# Altium footprint library EIA.DFN.PcbLib: 5 footprints
Each footprint in its own frame and in the unit in brackets; x right, y up, seen from the top. Pads: shape width x height; smd on the part's side, far side on the other; paste and mask are expansions set on the pad; w line width, h text height; cw(c..) or ccw(c..) is an arc to the next point about the centre after c.
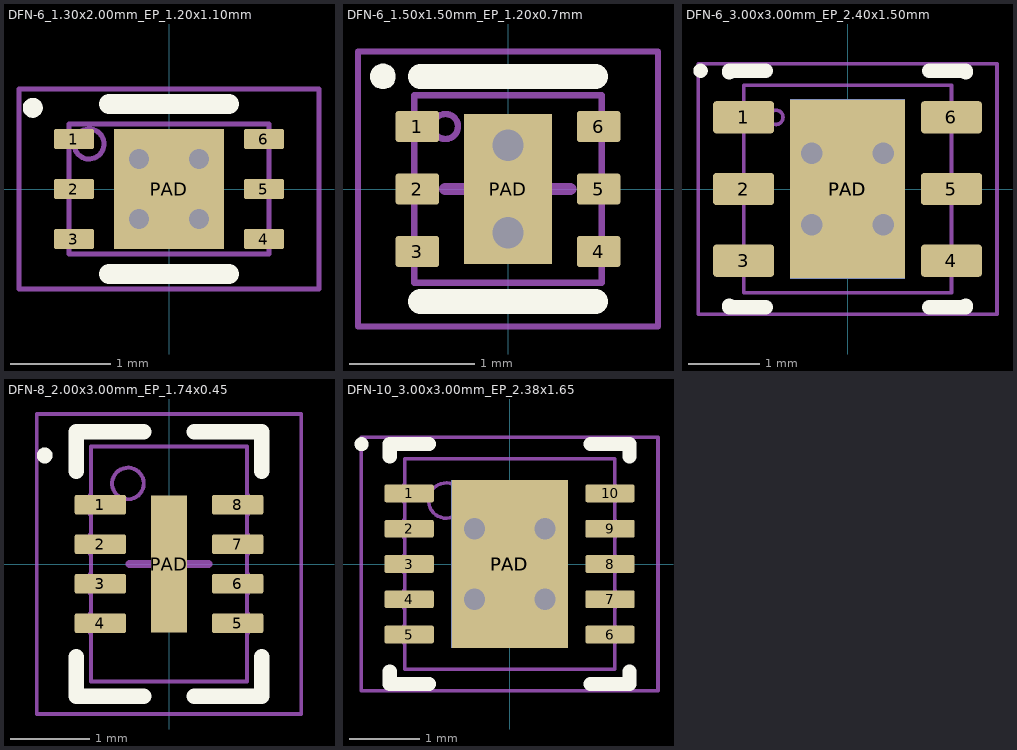
[diagram p0: the footprints below, top view; thin cyan lines are the x and y axes]

## DFN-6_1.30x2.00mm_EP_1.20x1.10mm [mm] "DFN, 6-Leads, Body 1.30x2.00mm, Pitch 0.50mm, Thermal Pad 1.20x1.10mm, IPC Medium Density"
height 0.9
pads (7):
  rrect20% 0.4x0.2 smd: 1(-0.95,0.5) 2(-0.95,0) 3(-0.95,-0.5) 4(0.95,-0.5) 5(0.95,0) 6(0.95,0.5)
  rect 1.1x1.2 smd: PAD(0,0)
via -0.3,-0.3 diameter 0.4 hole 0.2
via 0.3,-0.3 diameter 0.4 hole 0.2
via 0.3,0.3 diameter 0.4 hole 0.2
via -0.3,0.3 diameter 0.4 hole 0.2
Top Overlay:
  circle w0.1: c-1.362,0.812 r0.05
  lines w0.2: -0.6,-0.85 0.6,-0.85 ; -0.6,0.85 0.6,0.85
Mechanical 1:
  lines w0.05: -1,-0.65 1,-0.65 1,0.65 -1,0.65 -1,-0.65 ; -0.937,0.39 ccw(c-0.8,0.45) -0.932,0.379 ccw(c-0.8,0.45) -0.911,0.349 ccw(c-0.8,0.45) -0.901,0.339 ccw(c-0.8,0.45) -0.871,0.318 ccw(c-0.8,0.45) -0.86,0.313 ccw(c-0.8,0.45) -0.825,0.302 ccw(c-0.8,0.45) -0.812,0.3 ccw(c-0.8,0.45) -0.729,0.318 ccw(c-0.8,0.45) -0.718,0.324 ccw(c-0.8,0.45) -0.69,0.348 ccw(c-0.8,0.45) -0.681,0.358 ccw(c-0.8,0.45) -0.663,0.389 ccw(c-0.8,0.45) -0.658,0.402 ccw(c-0.8,0.45) -0.651,0.436 ccw(c-0.8,0.45) -0.65,0.45 ccw(c-0.8,0.45) -0.654,0.486 ccw(c-0.8,0.45) -0.658,0.499 ccw(c-0.8,0.45) -0.674,0.532 ccw(c-0.8,0.45) -0.681,0.542 ccw(c-0.8,0.45) -0.708,0.569 ccw(c-0.8,0.45) -0.718,0.576 ccw(c-0.8,0.45) -0.8,0.6 ccw(c-0.8,0.45) -0.812,0.6 ccw(c-0.8,0.45) -0.848,0.592 ccw(c-0.8,0.45) -0.86,0.587 ccw(c-0.8,0.45) -0.926,0.532 ccw(c-0.8,0.45) -0.932,0.521 ccw(c-0.8,0.45) -0.937,0.39
Mechanical 15:
  lines w0.05: -1.5,-1 1.5,-1 1.5,1 -1.5,1 -1.5,-1
  lines w0.1: -0.5,0 0.5,0 ; 0,-0.5 0,0.5
3D body "DFN-6_2.00x2.00mm_EP_1.10x1.20mm.STEP": height 0.9, standoff 0, extent -1,-0.65 1,0.65

## DFN-6_1.50x1.50mm_EP_1.20x0.7mm [mm] "DFN, 6-Leads, Body 1.50x1.50mm, Pitch 0.50mm, Thermal Pad 1.20x0.70mm, IPC Medium Density"
height 0.5
pads (7):
  rrect20% 0.35x0.25 smd: 1(-0.725,0.5) 2(-0.725,0) 3(-0.725,-0.5) 4(0.725,-0.5) 5(0.725,0) 6(0.725,0.5)
  rect 0.7x1.2 smd: PAD(0,0)
via 0,-0.35 diameter 0.5 hole 0.25
via 0,0.35 diameter 0.5 hole 0.25
Top Overlay:
  region: -1,1 -1.02,1 -1.057,0.985 -1.085,0.957 -1.1,0.92 -1.1,0.88 -1.085,0.843 -1.057,0.815 -1.02,0.8 -1,0.8 -0.98,0.8 -0.943,0.815 -0.915,0.843 -0.9,0.88 -0.9,0.92 -0.915,0.957 -0.943,0.985 -0.98,1
  lines w0.2: -0.7,-0.9 0.7,-0.9 ; -0.7,0.9 0.7,0.9
Mechanical 1:
  lines w0.05: -0.75,-0.75 -0.75,0.75 0.75,0.75 0.75,-0.75 -0.75,-0.75 ; -0.6,0.494 cw(c-0.501,0.5) -0.6,0.5 cw(c-0.501,0.5) -0.6,0.505 cw(c-0.5,0.5) -0.599,0.512 cw(c-0.499,0.5) -0.592,0.539 cw(c-0.501,0.5) -0.584,0.554 cw(c-0.5,0.5) -0.566,0.575 cw(c-0.501,0.501) -0.553,0.585 cw(c-0.5,0.499) -0.527,0.596 cw(c-0.5,0.501) -0.511,0.599 cw(c-0.5,0.499) -0.482,0.598 cw(c-0.5,0.501) -0.466,0.594 cw(c-0.5,0.499) -0.442,0.581 cw(c-0.499,0.501) -0.438,0.578 cw(c-0.499,0.501) -0.433,0.575 cw(c-0.5,0.5) -0.428,0.569 cw(c-0.501,0.5) -0.412,0.548 cw(c-0.499,0.501) -0.41,0.543 cw(c-0.499,0.5) -0.407,0.538 cw(c-0.5,0.5) -0.405,0.531 cw(c-0.501,0.5) -0.4,0.506 cw(c-0.499,0.5) -0.4,0.5 cw(c-0.499,0.5) -0.4,0.494 cw(c-0.5,0.5) -0.401,0.486 cw(c-0.501,0.5) -0.407,0.462 cw(c-0.499,0.5) -0.41,0.457 cw(c-0.499,0.499) -0.412,0.452 cw(c-0.5,0.5) -0.416,0.445 cw(c-0.501,0.5) -0.433,0.425 cw(c-0.499,0.499) -0.438,0.422 cw(c-0.499,0.499) -0.442,0.418 cw(c-0.5,0.5) -0.449,0.414 cw(c-0.5,0.501) -0.472,0.404 cw(c-0.5,0.499) -0.478,0.403 cw(c-0.5,0.499) -0.483,0.401 cw(c-0.5,0.5) -0.491,0.4 cw(c-0.5,0.501) -0.517,0.401 cw(c-0.5,0.499) -0.522,0.403 cw(c-0.5,0.499) -0.528,0.404 cw(c-0.5,0.5) -0.535,0.406 cw(c-0.5,0.501) -0.558,0.418 cw(c-0.501,0.499) -0.562,0.422 cw(c-0.501,0.499) -0.567,0.425 cw(c-0.5,0.5) -0.572,0.431 cw(c-0.499,0.5) -0.588,0.452 cw(c-0.501,0.499) -0.59,0.457 cw(c-0.501,0.5) -0.593,0.462 cw(c-0.5,0.5) -0.595,0.469 cw(c-0.499,0.5) -0.6,0.494
Mechanical 15:
  lines w0.05: -1.2,-1.1 1.2,-1.1 1.2,1.1 -1.2,1.1 -1.2,-1.1
  lines w0.1: -0.5,0 0.5,0 ; 0,-0.5 0,0.5
3D body "DFN-6_1.50x1.50mm_EP_1.20x0.7mm.STEP": height 0.5, standoff 0, extent -0.75,-0.75 0.75,0.75

## DFN-6_3.00x3.00mm_EP_2.40x1.50mm [mm] "DFN, 6-Leads, Body 3.00x3.00mm, Pitch 1.00mm, Thermal Pad 2.40x1.50mm, IPC Medium Density"
height 0.8
pads (8):
  rrect20% 0.85x0.45 smd: 1(-1.45,1) 2(-1.45,0) 3(-1.45,-1) 4(1.45,-1) 5(1.45,0) 6(1.45,1)
  rect 1.6x2.5 smd: PAD(0,0)
  rect 1.6x2.5 smd far side paste-2539.97: PAD(0,0)
via -0.5,0.5 diameter 0.6 hole 0.3
via 0.5,0.5 diameter 0.6 hole 0.3
via 0.5,-0.5 diameter 0.6 hole 0.3
via -0.5,-0.5 diameter 0.6 hole 0.3
Top Overlay:
  circle w0.1: c-2.05,1.65 r0.05
  lines w0.2: -1.65,-1.625 -1.65,-1.65 -1.14,-1.65 ; -1.65,1.625 -1.65,1.65 -1.14,1.65 ; 1.14,-1.65 1.65,-1.65 1.65,-1.625 ; 1.14,1.65 1.65,1.65 1.65,1.625
Mechanical 1:
  circle w0.05: c-1,1 r0.1
  lines w0.05: -1.45,-1.14 -1.5,-1.14 -1.5,-0.86 -1.45,-0.86 ; -1.45,-0.14 -1.5,-0.14 -1.5,0.14 -1.45,0.14 ; -1.45,0.86 -1.5,0.86 -1.5,1.14 -1.45,1.14 ; 1.45,-1.14 1.5,-1.14 1.5,-0.86 1.45,-0.86 ; 1.45,-0.14 1.5,-0.14 1.5,0.14 1.45,0.14 ; 1.45,0.86 1.5,0.86 1.5,1.14 1.45,1.14 ; -1.45,-1.45 1.45,-1.45 1.45,1.45 -1.45,1.45 -1.45,-1.45
Mechanical 15:
  lines w0.05: -2.085,-1.75 2.085,-1.75 2.085,1.75 -2.085,1.75 -2.085,-1.75
  lines w0.1: -0.5,0 0.5,0 ; 0,-0.5 0,0.5
3D body "DFN-6-1EP_3x3mm_P1mm_EP1.5x2.4mm.step": height 0.6, standoff 0, extent -1.5,-1.45 1.5,1.45

## DFN-8_2.00x3.00mm_EP_1.74x0.45 [mm] "DFN, 8-Leads, Body 2.00x3.00mm, Pitch 0.50mm, Thermal Pad 1.74x0.45mm, IPC Medium Density"
height 0.8
pads (9):
  rrect20% 0.65x0.25 smd: 1(-0.87,0.75) 2(-0.87,0.25) 3(-0.87,-0.25) 4(-0.87,-0.75) 5(0.87,-0.75) 6(0.87,-0.25) 7(0.87,0.25) 8(0.87,0.75)
  rect 0.45x1.74 smd: PAD(0,0)
Top Overlay:
  circle w0.1: c-1.575,1.375 r0.05
  lines w0.2: -1.175,-1.175 -1.175,-1.675 -0.32,-1.675 ; -1.175,1.175 -1.175,1.675 -0.32,1.675 ; 0.32,-1.675 1.175,-1.675 1.175,-1.175 ; 0.32,1.675 1.175,1.675 1.175,1.175
Mechanical 1:
  circle w0.05: c-0.52,1.02 r0.2
  lines w0.05: -0.99,-0.875 -1,-0.875 -1,-0.625 -0.99,-0.625 ; -0.99,-0.375 -1,-0.375 -1,-0.125 -0.99,-0.125 ; -0.99,0.125 -1,0.125 -1,0.375 -0.99,0.375 ; -0.99,0.625 -1,0.625 -1,0.875 -0.99,0.875 ; 0.99,-0.875 1,-0.875 1,-0.625 0.99,-0.625 ; 0.99,-0.375 1,-0.375 1,-0.125 0.99,-0.125 ; 0.99,0.125 1,0.125 1,0.375 0.99,0.375 ; 0.99,0.625 1,0.625 1,0.875 0.99,0.875 ; -0.99,-1.49 -0.99,1.49 0.99,1.49 0.99,-1.49 -0.99,-1.49
Mechanical 15:
  lines w0.05: -1.675,-1.9 1.675,-1.9 1.675,1.9 -1.675,1.9 -1.675,-1.9
  lines w0.1: -0.5,0 0.5,0 ; 0,-0.5 0,0.5
3D body "DFN-8-1EP_2x3mm_P0.5mm_EP0.61x2.2mm.step": height 0.77, standoff 0, extent -1,-1.49 1,1.49

## DFN-10_3.00x3.00mm_EP_2.38x1.65 [mm] "DFN, 10-Leads, Body 3.00x3.00mm, Pitch 0.50mm, Thermal Pad 2.38x1.65mm, IPC Medium Density"
height 0.8
pads (12):
  rrect20% 0.7x0.25 smd: 1(-1.425,1) 2(-1.425,0.5) 3(-1.425,0) 4(-1.425,-0.5) 5(-1.425,-1) 6(1.425,-1) 7(1.425,-0.5) 8(1.425,0) 9(1.425,0.5) 10(1.425,1)
  rect 1.65x2.38 smd: PAD(0,0)
  rect 1.65x2.38 smd far side paste-2539.97: PAD(0,0)
via -0.5,0.5 diameter 0.6 hole 0.3
via 0.5,0.5 diameter 0.6 hole 0.3
via 0.5,-0.5 diameter 0.6 hole 0.3
via -0.5,-0.5 diameter 0.6 hole 0.3
Top Overlay:
  circle w0.1: c-2.1,1.7 r0.05
  lines w0.2: -1.7,-1.525 -1.7,-1.7 -1.145,-1.7 ; -1.7,1.525 -1.7,1.7 -1.145,1.7 ; 1.145,-1.7 1.7,-1.7 1.7,-1.525 ; 1.145,1.7 1.7,1.7 1.7,1.525
Mechanical 1:
  circle w0.05: c-0.9,0.9 r0.25
  lines w0.05: -1.49,-1.125 -1.5,-1.125 -1.5,-0.875 -1.49,-0.875 ; -1.49,-0.625 -1.5,-0.625 -1.5,-0.375 -1.49,-0.375 ; -1.49,-0.125 -1.5,-0.125 -1.5,0.125 -1.49,0.125 ; -1.49,0.375 -1.5,0.375 -1.5,0.625 -1.49,0.625 ; -1.49,0.875 -1.5,0.875 -1.5,1.125 -1.49,1.125 ; 1.49,-1.125 1.5,-1.125 1.5,-0.875 1.49,-0.875 ; 1.49,-0.625 1.5,-0.625 1.5,-0.375 1.49,-0.375 ; 1.49,-0.125 1.5,-0.125 1.5,0.125 1.49,0.125 ; 1.49,0.375 1.5,0.375 1.5,0.625 1.49,0.625 ; 1.49,0.875 1.5,0.875 1.5,1.125 1.49,1.125 ; -1.49,-1.49 1.49,-1.49 1.49,1.49 -1.49,1.49 -1.49,-1.49
Mechanical 15:
  lines w0.05: -2.105,-1.8 2.105,-1.8 2.105,1.8 -2.105,1.8 -2.105,-1.8
  lines w0.1: -0.5,0 0.5,0 ; 0,-0.5 0,0.5
3D body "DFN-10-1EP_3x3mm_P0.5mm_EP1.55x2.48mm.step": height 0.77, standoff 0, extent -1.5,-1.49 1.5,1.49